# Altium footprint library can_1.5_0.PcbLib: 1 footprints
Each footprint in its own frame and in the unit in brackets; x right, y up, seen from the top. Pads: shape width x height; smd on the part's side, far side on the other; paste and mask are expansions set on the pad; w line width, h text height; cw(c..) or ccw(c..) is an arc to the next point about the centre after c.
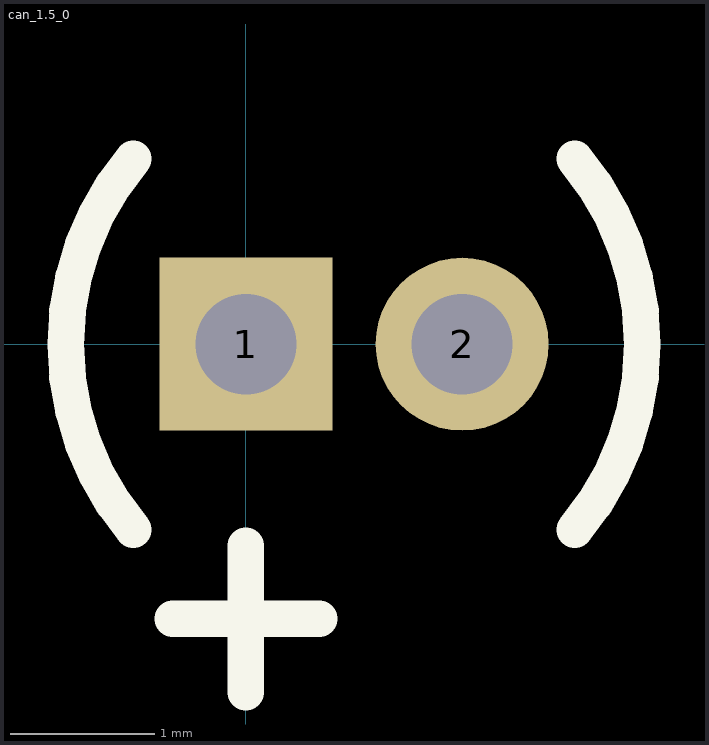
[diagram p0: the footprint, top view; thin cyan lines are the x and y axes]

## can_1.5_0 [mm] "2 Leaded Al Cap, 1.5mm spacing, 4mm diameter"
height 20
pads (2):
  rect 1.2x1.2 hole 0.7: 1(0,0)
  round 1.2 hole 0.7: 2(1.5,0)
Top Overlay:
  lines w0.254: -0.782,-1.286 cw(c0.75,0) -0.782,1.286 ; -0.508,-1.905 0.508,-1.905 ; 0,-2.413 0,-1.397 ; 2.282,-1.286 ccw(c0.75,0) 2.282,1.286